# Altium footprint library AMC1411QDWLRQ1.PcbLib: 1 footprints
Each footprint in its own frame and in the unit in brackets; x right, y up, seen from the top. Pads: shape width x height; smd on the part's side, far side on the other; paste and mask are expansions set on the pad; w line width, h text height; cw(c..) or ccw(c..) is an arc to the next point about the centre after c.
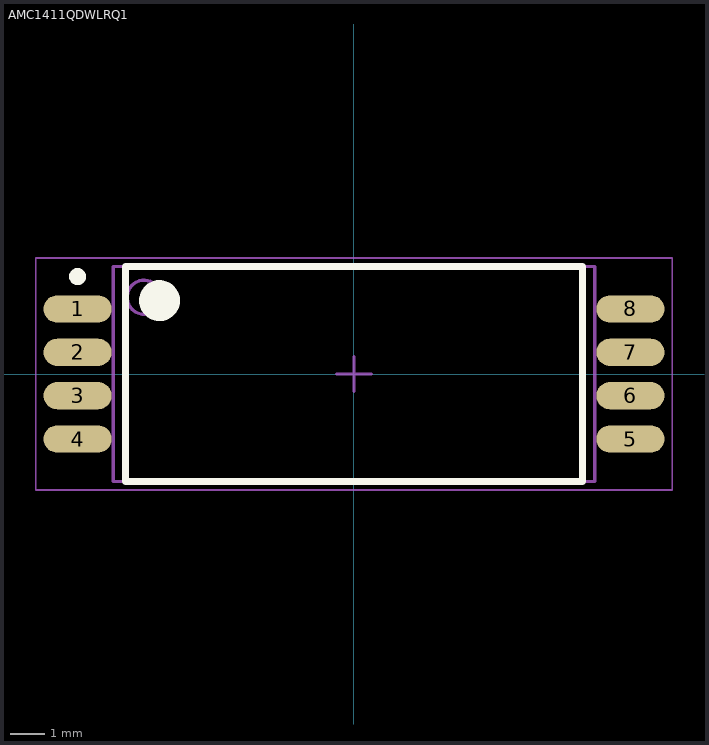
[diagram p0: the footprint, top view; thin cyan lines are the x and y axes]

## AMC1411QDWLRQ1 [mm] "SOIC, 8-Leads, Body 6.40x14.00mm, Pitch 1.27mm, IPC Medium Density"
height 3.64
pads (8):
  oval 2x0.8 smd: 1(-8.1,1.905) 2(-8.1,0.635) 3(-8.1,-0.635) 4(-8.1,-1.905) 5(8.1,-1.905) 6(8.1,-0.635) 7(8.1,0.635) 8(8.1,1.905)
Top Overlay:
  circle w0.6: c-5.7,2.15 r0.3
  circle w0.25: c-8.1,2.855 r0.125
  lines w0.2: -6.7,-3.15 6.7,-3.15 6.7,3.15 -6.7,3.15 -6.7,-3.15
Mechanical 13:
  circle w0.1: c-6.15,2.25 r0.5
  lines w0.1: -7.05,-3.15 7.05,-3.15 7.05,3.15 -7.05,3.15 -7.05,-3.15
Mechanical 15:
  lines w0.05: -9.325,-3.4 9.325,-3.4 9.325,3.4 -9.325,3.4 -9.325,-3.4
  lines w0.1: -0.5,0 0.5,0 ; 0,-0.5 0,0.5
3D body: height 3.64, standoff 0.4, extent -7.05,-3.15 7.05,3.15